# EAGLE library part TPS62840DLCR (library TPS62840DLC)
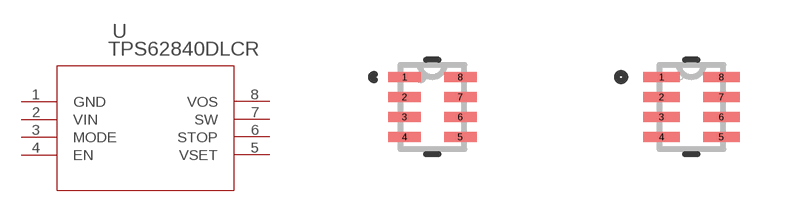
[diagram p0: symbol with the pads of VSON8_2P1X1P6_TEX; footprints VSON8_2P1X1P6_TEX, VSON8_2P1X1P6_TEX-M]

Designator prefix U

## TPS62840DLCRVSON8_2P1X1P6_TEX (Copyright: Copyright (C) 2023 Ultra Librarian. All rights reserved.; Manufacturer_Part_Number: TPS62840DLCR; Mfr_Name: Texas Instruments)  [VSON8_2P1X1P6_TEX]
1  GND  pas
2  VIN  pas
3  MODE  pas
4  EN  pas
5  VSET  pas
6  STOP  pas
7  SW  pas
8  VOS  pas

## TPS62840DLCRVSON8_2P1X1P6_TEX-M (Copyright: Copyright (C) 2023 Ultra Librarian. All rights reserved.; Manufacturer_Part_Number: TPS62840DLCR; Mfr_Name: Texas Instruments)  [VSON8_2P1X1P6_TEX-M]
Pads as for VSON8_2P1X1P6_TEX

## TPS62840DLCRVSON8_2P1X1P6_TEX-L (Copyright: Copyright (C) 2023 Ultra Librarian. All rights reserved.; Manufacturer_Part_Number: TPS62840DLCR; Mfr_Name: Texas Instruments)  [VSON8_2P1X1P6_TEX-L]
Pads as for VSON8_2P1X1P6_TEX

## Footprint VSON8_2P1X1P6_TEX (pad centres in mm)
smd 0.813 x 0.254: 1 -0.699,0.75; 2 -0.699,0.25; 3 -0.699,-0.25; 4 -0.699,-0.75; 5 0.699,-0.75; 6 0.699,-0.25; 7 0.699,0.25; 8 0.699,0.75

## Footprint VSON8_2P1X1P6_TEX-M (pad centres in mm)
smd 0.914 x 0.254: 1 -0.749,0.75; 2 -0.749,0.25; 3 -0.749,-0.25; 4 -0.749,-0.75; 5 0.749,-0.75; 6 0.749,-0.25; 7 0.749,0.25; 8 0.749,0.75

## Footprint VSON8_2P1X1P6_TEX-L (pad centres in mm)
smd 0.711 x 0.254: 1 -0.648,0.75; 2 -0.648,0.25; 3 -0.648,-0.25; 4 -0.648,-0.75; 5 0.648,-0.75; 6 0.648,-0.25; 7 0.648,0.25; 8 0.648,0.75